# EAGLE library part LTC3832-1 (library PowerProducts)
High Power Step-Down Synchronous DC/DC Controllers for Low Voltage Operation
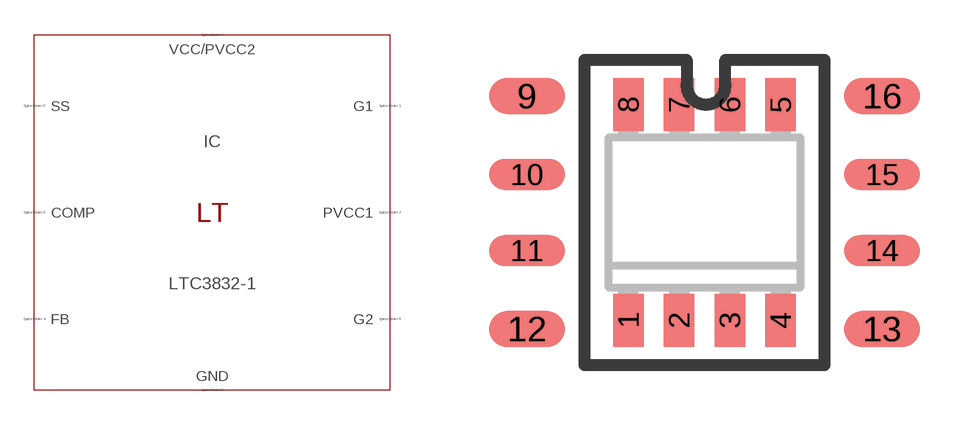
[diagram p355: symbol with the pads of SO8(S8); footprint SO8(S8)]

Designator prefix IC

## LTC3832-1 (SPICEMODEL: LTC3832-1.sub; SPICEPREFIX: X; VALUE2: LTC3832-1)  [SO8(S8)]
1  G1  pas
2  PVCC1  pas
3  GND  pas
4  FB  pas
5  SS  pas
6  COMP  pas
7  VCC/PVCC2  pas
8  G2  pas

## Footprint SO8(S8) (pad centres in mm)
Package generated from: SO8(S8).asc (!PADS-POWERPCB-V5.0-BASIC! DESIGN DATABASE ASCII FILE 1.0) with :import-pads-powerpcb-v5.ulp Version 1.0.1 at 04.10.2012 14:11:34
smd 0.762 x 1.321: 1 -1.905,-2.701; 2 -0.635,-2.701; 3 0.635,-2.701; 4 1.905,-2.701; 5 1.905,2.701; 6 0.635,2.701; 7 -0.635,2.701; 8 -1.905,2.701
smd 1.905 x 0.9: 9 -4.445,2.917; 12 -4.445,-2.917; 13 4.445,-2.917; 16 4.445,2.917
smd 1.905 x 0.78: 10 -4.445,0.953; 11 -4.445,-0.953; 14 4.445,-0.953; 15 4.445,0.953